# Altium footprint library Sensor Card.PcbLib: 29 footprints (part 1 of 2)
Each footprint in its own frame and in the unit in brackets; x right, y up, seen from the top. Pads: shape width x height; smd on the part's side, far side on the other; paste and mask are expansions set on the pad; w line width, h text height; cw(c..) or ccw(c..) is an arc to the next point about the centre after c.
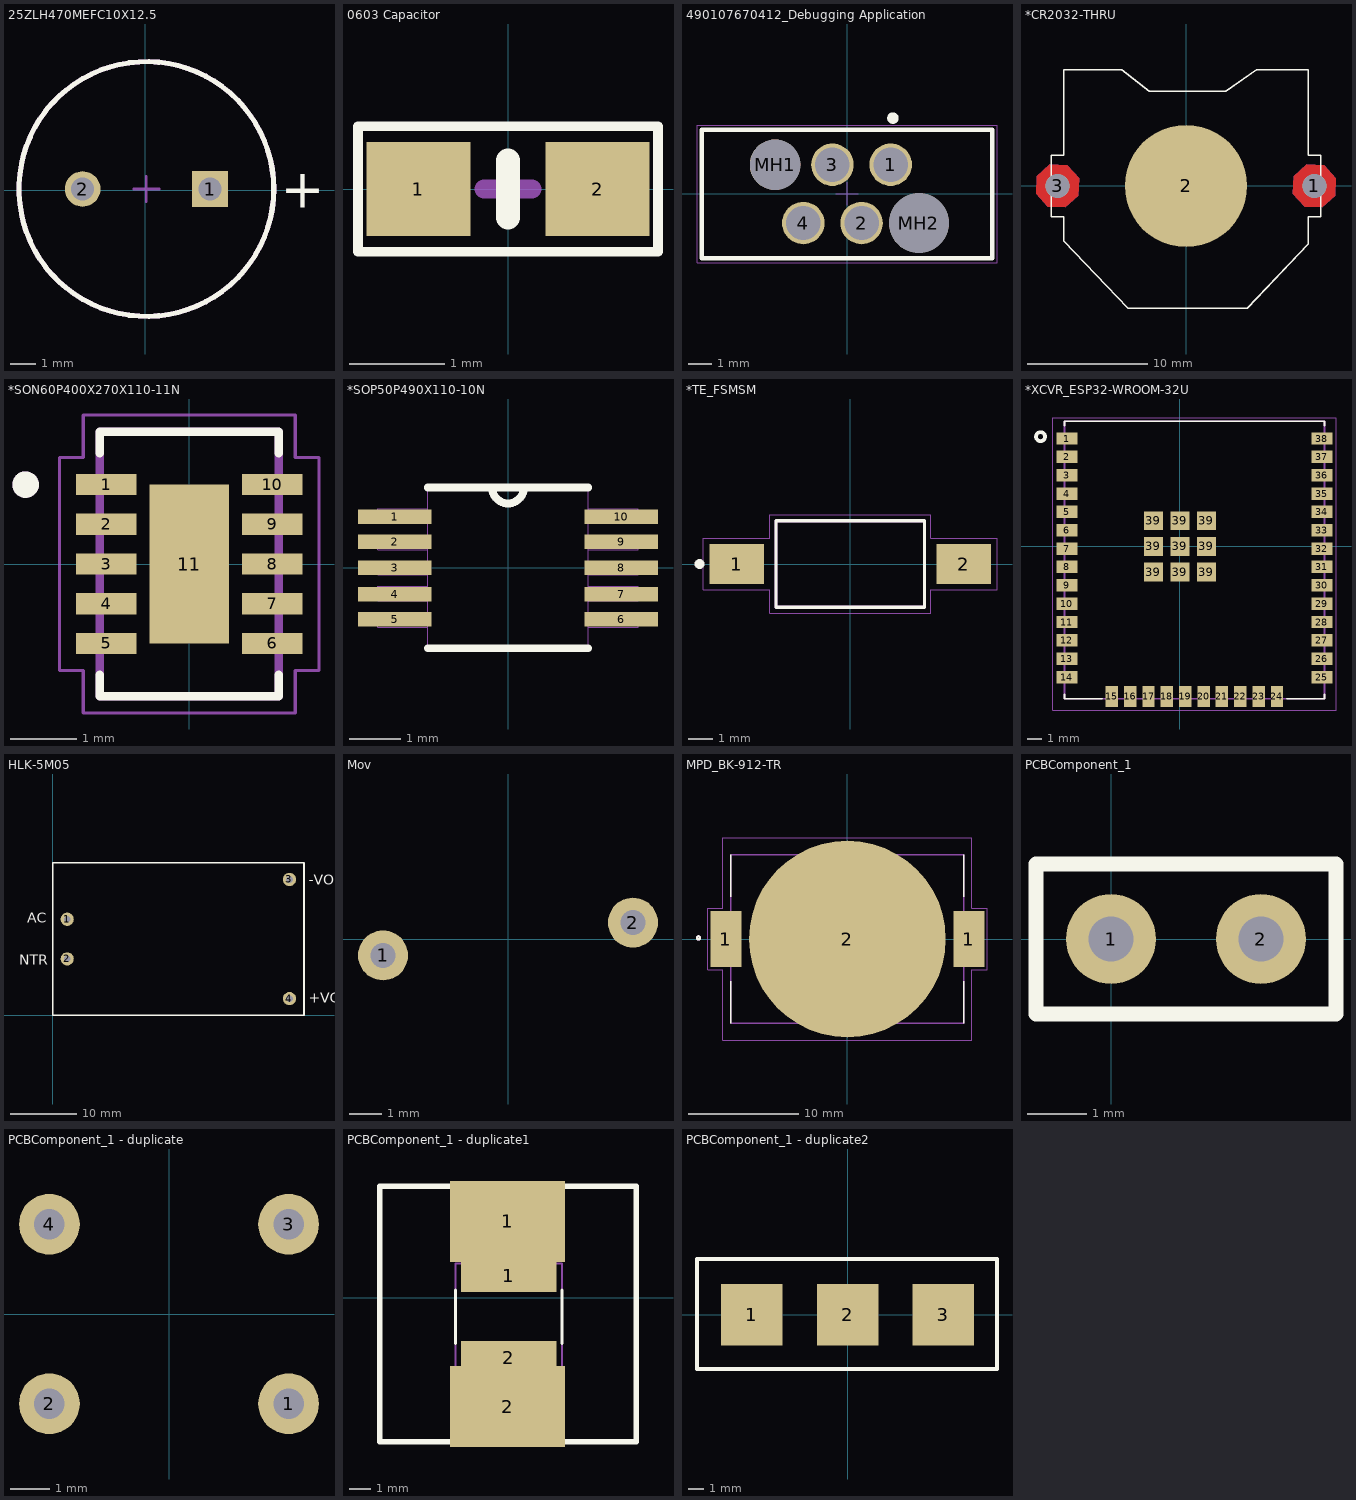
[diagram p0: the footprints below, top view; thin cyan lines are the x and y axes]

## 25ZLH470MEFC10X12.5 [mm]
pads (2):
  rect 1.4x1.4 hole 0.9: 1(2.551,0.051)
  round 1.4 hole 0.9: 2(-2.449,0.051)
Top Overlay:
  circle w0.2: c0.051,0.051 r5
  text "+" at 5.326,-0.686 h1.5
Mechanical 13:
  circle w0.2: c0.051,0.051 r5
Mechanical 15:
  lines w0.1: -0.449,0.051 0.551,0.051 ; 0.051,-0.449 0.051,0.551
3D body "10x12.5x5x0.6.stp": height 12.76, standoff -19.96, extent -4.939,-4.949 5.051,5.051

## 0603 Capacitor [mil]
pads (2):
  rect 43x39 smd: 1(-37,0) 2(37,0)
Top Overlay:
  lines w3.94: -62,-26 -62,26 62,26 62,-26 -62,-26
  lines w10: 0,-11.81 0,11.81
Mechanical 15:
  lines w7.87: -9.84,0 9.84,0 ; 0,-9.84 0,9.84
3D body "0603 cap.STEP": height 32.44, standoff 0, extent -31.49,-16.22 31.5,16.23

## 490107670412_Debugging Application [mm] "REDFIT IDC SKEDD Connector, pitch 2.54mm, 4p"
height 10.45
pads (6):
  round 1.85 hole 1.5: 1(1.905,1.27) 2(0.635,-1.27) 3(-0.635,1.27) 4(-1.905,-1.27)
  round 2.2 hole 2.2 unplated: MH1(-3.135,1.27)
  round 2.6 hole 2.6 unplated: MH2(3.135,-1.27)
Top Overlay:
  circle w0.25: c2,3.3 r0.125
  lines w0.2: -6.335,-2.8 6.335,-2.8 6.335,2.8 -6.335,2.8 -6.335,-2.8
Mechanical 13:
  lines w0.1: -6.335,-2.8 -6.335,2.8 6.335,2.8 6.335,-2.8 -6.335,-2.8
Mechanical 15:
  lines w0.05: -0.5,0 0.5,0 ; 0,-0.5 0,0.5 ; -6.535,-3 -6.535,3 6.535,3 6.535,-3 -6.535,-3
3D body "490107670412.stp": height 10.5, standoff -4.45, extent -6.335,-2.8 6.335,2.8

## *CR2032-THRU [mm]
pads (3):
  round 2 hole 2: 1(10.668,0) 3(-10.668,0)
  round 10.16 smd: 2(0,0)
Top Layer:
  region: 12.458,0.652 11.473,1.727 10.016,1.79 8.941,0.805 8.878,-0.652 9.863,-1.727 11.32,-1.79 12.395,-0.805
  region: -8.878,0.652 -9.863,1.727 -11.32,1.79 -12.395,0.805 -12.458,-0.652 -11.473,-1.727 -10.016,-1.79 -8.941,-0.805
Bottom Layer:
  region: 12.458,0.652 11.473,1.727 10.016,1.79 8.941,0.805 8.878,-0.652 9.863,-1.727 11.32,-1.79 12.395,-0.805
  region: -8.878,0.652 -9.863,1.727 -11.32,1.79 -12.395,0.805 -12.458,-0.652 -11.473,-1.727 -10.016,-1.79 -8.941,-0.805
Top Overlay:
  lines w0.127: -11.176,-2.54 -11.176,2.54 -10.16,2.54 -10.16,9.652 -5.334,9.652 -3.048,7.874 3.302,7.874 5.842,9.652 10.16,9.652 10.16,2.54 11.176,2.54 11.176,-2.54 10.16,-2.54 10.16,-4.826 5.08,-10.16 -4.826,-10.16 -10.16,-4.572 -10.16,-2.54 -11.176,-2.54
Top Solder:
  region: -7.62,0 -7.61,-0.399 -7.578,-0.797 -7.526,-1.192 -7.453,-1.584 -7.36,-1.972 -7.247,-2.355 -7.114,-2.731 -6.961,-3.099 -6.789,-3.459 -6.599,-3.81 -6.391,-4.15 -6.165,-4.479 -5.922,-4.795 -5.663,-5.099 -5.388,-5.388 -5.099,-5.663 -4.795,-5.922 -4.479,-6.165 -4.15,-6.391 -3.81,-6.599 -3.459,-6.789 -3.099,-6.961 -2.731,-7.114 -2.355,-7.247 -1.972,-7.36 -1.584,-7.453 -1.192,-7.526 -0.797,-7.578 -0.399,-7.61 0,-7.62 0.399,-7.61 0.797,-7.578 1.192,-7.526 1.584,-7.453 1.972,-7.36 2.355,-7.247 2.731,-7.114 3.099,-6.961 3.459,-6.789 3.81,-6.599 4.15,-6.391 4.479,-6.165 4.795,-5.922 5.099,-5.663 5.388,-5.388 5.663,-5.099 5.922,-4.795 6.165,-4.479 6.391,-4.15 6.599,-3.81 6.789,-3.459 6.961,-3.099 7.114,-2.731 7.247,-2.355 7.36,-1.972 7.453,-1.584 7.526,-1.192 7.578,-0.797 7.61,-0.399 7.62,0 7.61,0.399 7.578,0.797 7.526,1.192 7.453,1.584 7.36,1.972 7.247,2.355 7.114,2.731 6.961,3.099 6.789,3.459 6.599,3.81 6.391,4.15 6.165,4.479 5.922,4.795 5.663,5.099 5.388,5.388 5.099,5.663 4.795,5.922 4.479,6.165 4.15,6.391 3.81,6.599 3.459,6.789 3.099,6.961 2.731,7.114 2.355,7.247 1.972,7.36 1.584,7.453 1.192,7.526 0.797,7.578 0.399,7.61 0,7.62 -0.399,7.61 -0.797,7.578 -1.192,7.526 -1.584,7.453 -1.972,7.36 -2.355,7.247 -2.731,7.114 -3.099,6.961 -3.459,6.789 -3.81,6.599 -4.15,6.391 -4.479,6.165 -4.795,5.922 -5.099,5.663 -5.388,5.388 -5.663,5.099 -5.922,4.795 -6.165,4.479 -6.391,4.15 -6.599,3.81 -6.789,3.459 -6.961,3.099 -7.114,2.731 -7.247,2.355 -7.36,1.972 -7.453,1.584 -7.526,1.192 -7.578,0.797 -7.61,0.399
Multi-Layer:
  region: 12.458,0.652 11.473,1.727 10.016,1.79 8.941,0.805 8.878,-0.652 9.863,-1.727 11.32,-1.79 12.395,-0.805
  region: -8.878,0.652 -9.863,1.727 -11.32,1.79 -12.395,0.805 -12.458,-0.652 -11.473,-1.727 -10.016,-1.79 -8.941,-0.805

## *SON60P400X270X110-11N [mm]
pads (11):
  rect 0.91x0.32 smd: 1(-1.255,1.2) 2(-1.255,0.6) 3(-1.255,0) 4(-1.255,-0.6) 5(-1.255,-1.2) 6(1.255,-1.2) 7(1.255,-0.6) 8(1.255,0) 9(1.255,0.6) 10(1.255,1.2)
  rect 1.2x2.4 smd: 11(0,0)
Top Overlay:
  circle w0.2: c-2.473,1.2 r0.1
  lines w0.127: -1.35,-1.675 -1.35,-2 1.35,-2 1.35,-1.675 ; -1.35,1.675 -1.35,2 1.35,2 1.35,1.675
Top Paste:
  region: -0.37,1.045 0.37,1.045 0.37,0.075 -0.37,0.075
  region: -0.37,-0.075 0.37,-0.075 0.37,-1.045 -0.37,-1.045
Mechanical 4:
  circle w0.2: c-2.473,1.2 r0.1
  circle w0.2: c-2.473,1.2 r0.1
  lines w0.127: -1.35,-2 -1.35,2 ; -1.35,-2 1.35,-2 ; -1.35,-2 -1.35,2 ; -1.35,-2 1.35,-2 ; -1.35,2 1.35,2 ; -1.35,2 1.35,2 ; 1.35,-2 1.35,2 ; 1.35,-2 1.35,2
Mechanical 16:
  lines w0.05: -1.96,-1.61 -1.6,-1.61 -1.6,-2.25 1.6,-2.25 1.6,-1.61 1.96,-1.61 1.96,1.61 1.6,1.61 1.6,2.25 -1.6,2.25 -1.6,1.61 -1.96,1.61 -1.96,-1.61
3D body "User Library-CCS811.STEP": height 1.1, standoff -0.02, extent -1.35,-2 1.35,2

## *SOP50P490X110-10N [mil]
pads (10):
  rect 56x11 smd: 1(-86,39) 2(-86,20) 3(-86,0) 4(-86,-20) 5(-86,-39) 6(86,-39) 7(86,-20) 8(86,0) 9(86,20) 10(86,39)
Top Overlay:
  lines w6: -61,-61 61,-61 ; -61,61 -12,61 ; 61,61 12,61 ; -12,61 ccw(c0,61) 12,61 ; -12,61 12,61
Mechanical 4:
  lines w0: -99,-45 -99,-34 ; -99,-45 -61,-45 ; -99,-45 -99,-34 ; -99,-45 -61,-45 ; -99,-34 -61,-34 ; -99,-34 -61,-34 ; -99,-25 -99,-14 ; -99,-25 -61,-25 ; -99,-25 -99,-14 ; -99,-25 -61,-25 ; -99,-14 -61,-14 ; -99,-14 -61,-14 ; -99,-5 -99,5 ; -99,-5 -61,-5 ; -99,-5 -99,5 ; -99,-5 -61,-5 ; -99,5 -61,5 ; -99,5 -61,5 ; -99,14 -99,25 ; -99,14 -61,14 ; -99,14 -99,25 ; -99,14 -61,14 ; -99,25 -61,25 ; -99,25 -61,25 ; -99,34 -99,45 ; -99,34 -61,34 ; -99,34 -99,45 ; -99,34 -61,34 ; -99,45 -61,45 ; -99,45 -61,45 ; -61,-61 61,-61 ; -61,-61 -61,61 ; -61,-61 61,-61 ; -61,-61 -61,61 ; -61,-45 -61,-34 ; -61,-45 -61,-34 ; -61,-25 -61,-14 ; -61,-25 -61,-14 ; -61,-5 -61,5 ; -61,-5 -61,5 ; -61,14 -61,25 ; -61,14 -61,25 ; -61,34 -61,45 ; -61,34 -61,45 ; -61,61 -12,61 ; -61,61 -12,61 ; -12,61 ccw(c0,61) 12,61 ; -12,61 ccw(c0,61) 12,61 ; -12,61 12,61 ; -12,61 12,61 ; 12,61 61,61 ; 12,61 61,61 ; 61,-61 61,61 ; 61,-61 61,61 ; 61,-45 61,-34 ; 61,-45 99,-45 ; 61,-45 61,-34 ; 61,-45 99,-45 ; 61,-34 99,-34 ; 61,-34 99,-34 ; 61,-25 61,-14 ; 61,-25 99,-25 ; 61,-25 61,-14 ; 61,-25 99,-25 ; 61,-14 99,-14 ; 61,-14 99,-14 ; 61,-5 61,5 ; 61,-5 99,-5 ; 61,-5 61,5 ; 61,-5 99,-5 ; 61,5 99,5 ; 61,5 99,5 ; 61,14 61,25 ; 61,14 99,14 ; 61,14 61,25 ; 61,14 99,14 ; 61,25 99,25 ; 61,25 99,25 ; 61,34 61,45 ; 61,34 99,34 ; 61,34 61,45 ; 61,34 99,34 ; 61,45 99,45 ; 61,45 99,45 ; 99,-45 99,-34 ; 99,-45 99,-34 ; 99,-25 99,-14 ; 99,-25 99,-14 ; 99,-5 99,5 ; 99,-5 99,5 ; 99,14 99,25 ; 99,14 99,25 ; 99,34 99,45 ; 99,34 99,45
3D body "User Library-DGS0010A.STEP": height 43.31, standoff 0, extent -96.96,-59.06 96.94,59.05

## *TE_FSMSM [mm]
pads (2):
  rect 2.19x1.6 smd: 1(-4.59,0) 2(4.59,0)
Top Overlay:
  circle w0.2: c-6.096,0 r0.1
  lines w0.127: -3,-1.75 -3,1.75 3,1.75 3,-1.75 -3,-1.75
Mechanical 4:
  lines w0.127: -3,-1.75 -3,1.75 ; -3,-1.75 3,-1.75 ; -3,-1.75 -3,1.75 ; -3,-1.75 3,-1.75 ; -3,1.75 3,1.75 ; -3,1.75 3,1.75 ; 3,-1.75 3,1.75 ; 3,-1.75 3,1.75
Mechanical 16:
  lines w0.05: -5.935,-1.05 -3.25,-1.05 -3.25,-2 3.25,-2 3.25,-1.05 5.935,-1.05 5.935,1.05 3.25,1.05 3.25,2 -3.25,2 -3.25,1.05 -5.935,1.05 -5.935,-1.05
3D body "User Library-Tact switch 1181_3.STEP": height 2.4, standoff -0.1, extent -4.039,-1.778 3.961,1.822

## *XCVR_ESP32-WROOM-32U [mm]
pads (47):
  rect 1.45x0.86 smd: 1(-7.831,7.469) 2(-7.831,6.199) 3(-7.831,4.929) 4(-7.831,3.659) 5(-7.831,2.389) 6(-7.831,1.119) 7(-7.831,-0.151) 8(-7.831,-1.421) 9(-7.831,-2.691) 10(-7.831,-3.961) 11(-7.831,-5.231) 12(-7.831,-6.501) 13(-7.831,-7.771) 14(-7.831,-9.041) 25(9.829,-9.041) 26(9.829,-7.771) 27(9.829,-6.501) 28(9.829,-5.231) 29(9.829,-3.961) 30(9.829,-2.691) 31(9.829,-1.421) 32(9.829,-0.151) 33(9.829,1.119) 34(9.829,2.389) 35(9.829,3.659) 36(9.829,4.929) 37(9.829,6.199) 38(9.829,7.469)
  rect 0.86x1.45 smd: 15(-4.716,-10.371) 16(-3.446,-10.371) 17(-2.176,-10.371) 18(-0.906,-10.371) 19(0.364,-10.371) 20(1.634,-10.371) 21(2.904,-10.371) 22(4.174,-10.371) 23(5.444,-10.371) 24(6.714,-10.371)
  rect 1.3x1.3 smd: 39(-1.835,-1.778) 39(-1.835,0) 39(-1.835,1.778) 39(0,-1.778) 39(0,0) 39(0,1.778) 39(1.835,-1.778) 39(1.835,0) 39(1.835,1.778)
Top Overlay:
  circle w0.254: c-9.651,7.599 r0.312
  lines w0.127: -8.001,-10.241 -8.001,-10.541 -5.401,-10.541 ; -8.001,8.359 -8.001,8.659 9.999,8.659 9.999,8.359 ; 7.399,-10.541 9.999,-10.541 9.999,-10.241
Mechanical 4:
  lines w0.127: -8.001,-10.541 9.999,-10.541 ; -8.001,-10.541 -8.001,8.659 ; -8.001,-10.541 9.999,-10.541 ; -8.001,-10.541 -8.001,8.659 ; -8.001,8.659 9.999,8.659 ; -8.001,8.659 9.999,8.659 ; 9.999,-10.541 9.999,8.659 ; 9.999,-10.541 9.999,8.659
Mechanical 16:
  lines w0.05: -8.801,-11.341 10.799,-11.341 10.799,8.909 -8.801,8.909 -8.801,-11.341
3D body "User Library-esp-wroom-32.STEP": height 3, standoff -0.04, extent -7.942,-10.612 10.128,14.928

## HLK-5M05 [mm]
pads (4):
  round 2 hole 1: 1(2.2,14.5) 2(2.2,8.5) 3(35.8,20.5) 4(35.8,2.5)
Top Overlay:
  lines w0.254: 0,0 38,0 38,23.012 0,23.012 0,0
  text "+VO" at 38.735,1.905 h1.52
  text "-VO" at 38.735,19.685 h1.52
  text "NTR" at -5.08,7.62 h1.52
  text "AC" at -3.81,13.97 h1.52
3D body: height 18, standoff 0.1, extent 0,0 38.1,22.86

## Mov [mil]
pads (2):
  round 60 hole 30: 1(-150,-19.68) 2(149.61,19.68)
3D body "User Library-final MOV7,5.STEP": height 728.35, standoff 0, extent -216.53,-35.44 228.39,37.39

## MPD_BK-912-TR [mm]
pads (3):
  rect 2.79x5.08 smd: 1(-10.985,0) 1(10.985,0)
  round 17.78 smd: 2(0,0)
Top Overlay:
  circle w0.2: c-13.45,0.1 r0.141
  lines w0.127: -10.54,-7.62 -10.54,-3.81 ; -10.54,3.81 -10.54,7.62 ; 10.54,-7.62 10.54,-3.81 ; 10.54,3.81 10.54,7.62
Mechanical 13:
  circle w0.2: c-13.45,0.1 r0.141
  lines w0.127: -10.54,-7.62 -10.54,7.62 10.54,7.62 10.54,-7.62 -10.54,-7.62
Mechanical 15:
  lines w0.05: -12.625,-2.8 -12.625,2.8 -11.25,2.8 -11.25,9.14 11.25,9.14 11.25,2.8 12.625,2.8 12.625,-2.8 11.25,-2.8 11.25,-9.14 -11.25,-9.14 -11.25,-2.8 -12.625,-2.8
3D body "BK-912-TR--3DModel-STEP-56544.STEP": height 4.3, standoff -0.02, extent -11.481,-7.672 11.379,7.745

## PCBComponent_1 [mil]
pads (2):
  round 60 hole 30: 1(0,0) 2(100,0)
Top Overlay:
  lines w10: -50,-50 -50,50 150,50 150,-50 -50,-50

## PCBComponent_1 - duplicate [mil]
pads (4):
  round 60 hole 30: 1(118.11,-88.58) 2(-118.11,-88.58) 3(118.11,88.58) 4(-118.11,88.58)
3D body "tactileswitch-short.STEP": height 195, standoff -133, extent -150.4,-121.25 152.4,115.25

## PCBComponent_1 - duplicate1 [mm]
pads (4):
  rect 5.4x3.8 smd: 1(15.291,3.588) 2(15.291,-5.112)
  rect 4.5x1.55 smd: 1(15.342,1.036) 2(15.342,-2.814)
Top Overlay:
  lines w0.15: 12.842,-2.139 12.842,0.361 ; 17.842,-2.139 17.842,0.361
  lines w0.254: 9.277,-6.762 9.277,5.238 ; 9.291,-6.762 21.291,-6.762 ; 9.291,5.238 21.291,5.238 ; 21.342,-6.762 21.342,5.238
Mechanical 13:
  lines w0.1: 12.842,-3.389 12.842,1.611 17.842,1.611 17.842,-3.389 12.842,-3.389
3D body: height 8, standoff 0.1, extent 9.271,-6.782 21.387,5.207
3D body "LQS_5040.stp": height 4.03, standoff 0.03, extent 12.918,-3.465 17.918,1.535

## PCBComponent_1 - duplicate2 [mm]
pads (3):
  rect 4x4 all layers, no hole: 1(-6.274,0) 2(-0.025,0) 3(6.198,0)
Top Overlay:
  lines w0.254: -9.83,-3.531 9.703,-3.531 9.703,3.632 -9.83,3.632 -9.83,-3.531

## PCBComponent_1 - duplicate3 [mm]